# EAGLE library part AD8310-MSOP8 (library Neel)
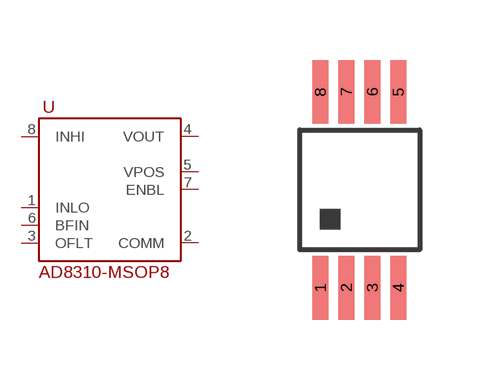
[diagram p62: symbol with the pads of MSOP-8; footprint MSOP-8]

Designator prefix U

## AD8310-MSOP8  [MSOP-8]
1  INLO
2  COMM
3  OFLT
4  VOUT
5  VPOS
6  BFIN
7  ENBL
8  INHI

## Footprint MSOP-8 (pad centres in mm)
smd 0.4 x 1.6: 1 0.52,-0.95; 2 1.17,-0.95; 3 1.82,-0.95; 4 2.47,-0.95; 5 2.47,3.95; 6 1.82,3.95; 7 1.17,3.95; 8 0.52,3.95